# Altium footprint library 1881451.PcbLib: 1 footprints
Each footprint in its own frame and in the unit in brackets; x right, y up, seen from the top. Pads: shape width x height; smd on the part's side, far side on the other; paste and mask are expansions set on the pad; w line width, h text height; cw(c..) or ccw(c..) is an arc to the next point about the centre after c.
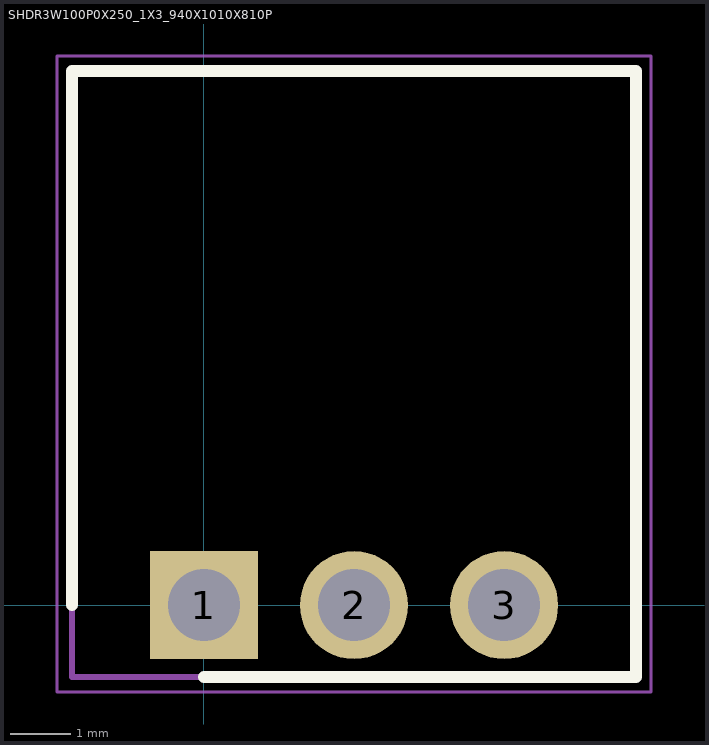
[diagram p0: the footprint, top view; thin cyan lines are the x and y axes]

## SHDR3W100P0X250_1X3_940X1010X810P [mm]
pads (3):
  rect 1.8x1.8 hole 1.2: 1(0,0)
  round 1.8 hole 1.2: 2(2.5,0) 3(5,0)
Top Overlay:
  lines w0.2: -2.2,0 -2.2,8.9 7.2,8.9 7.2,-1.2 0,-1.2
Mechanical 13:
  lines w0.1: -2.2,-1.2 -2.2,8.9 7.2,8.9 7.2,-1.2 -2.2,-1.2
Mechanical 15:
  lines w0.05: -2.45,-1.45 -2.45,9.15 7.45,9.15 7.45,-1.45 -2.45,-1.45